# Altium schematic symbol library RM024-SXXX.SchLib: 1 symbol
Pins are listed as number, name and electrical type; pins without a type are passive.

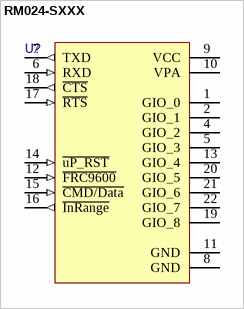
[diagram p0: symbol RM024-SXXX]

## RM024-SXXX
designator U?, comment RM024  (value not drawn)
pins: 1 GIO_0, 2 GIO_1, 4 GIO_2, 5 GIO_3, 6 RXD (in), 7 TXD (out), 8 GND (power), 9 VCC (power), 10 VPA (power), 11 GND (power), 12 ~{FRC9600} (in), 13 GIO_4, 14 ~{uP_RST} (in), 15 ~{CMD/Data} (in), 16 ~{InRange} (out), 17 ~{RTS} (in), 18 ~{CTS} (out), 19 GIO_8, 20 GIO_5, 21 GIO_6, 22 GIO_7
1 alternate drawing of the same symbol